# Altium footprint library TH Resistor.PcbLib: 12 footprints
Each footprint in its own frame and in the unit in brackets; x right, y up, seen from the top. Pads: shape width x height; smd on the part's side, far side on the other; paste and mask are expansions set on the pad; w line width, h text height; cw(c..) or ccw(c..) is an arc to the next point about the centre after c.
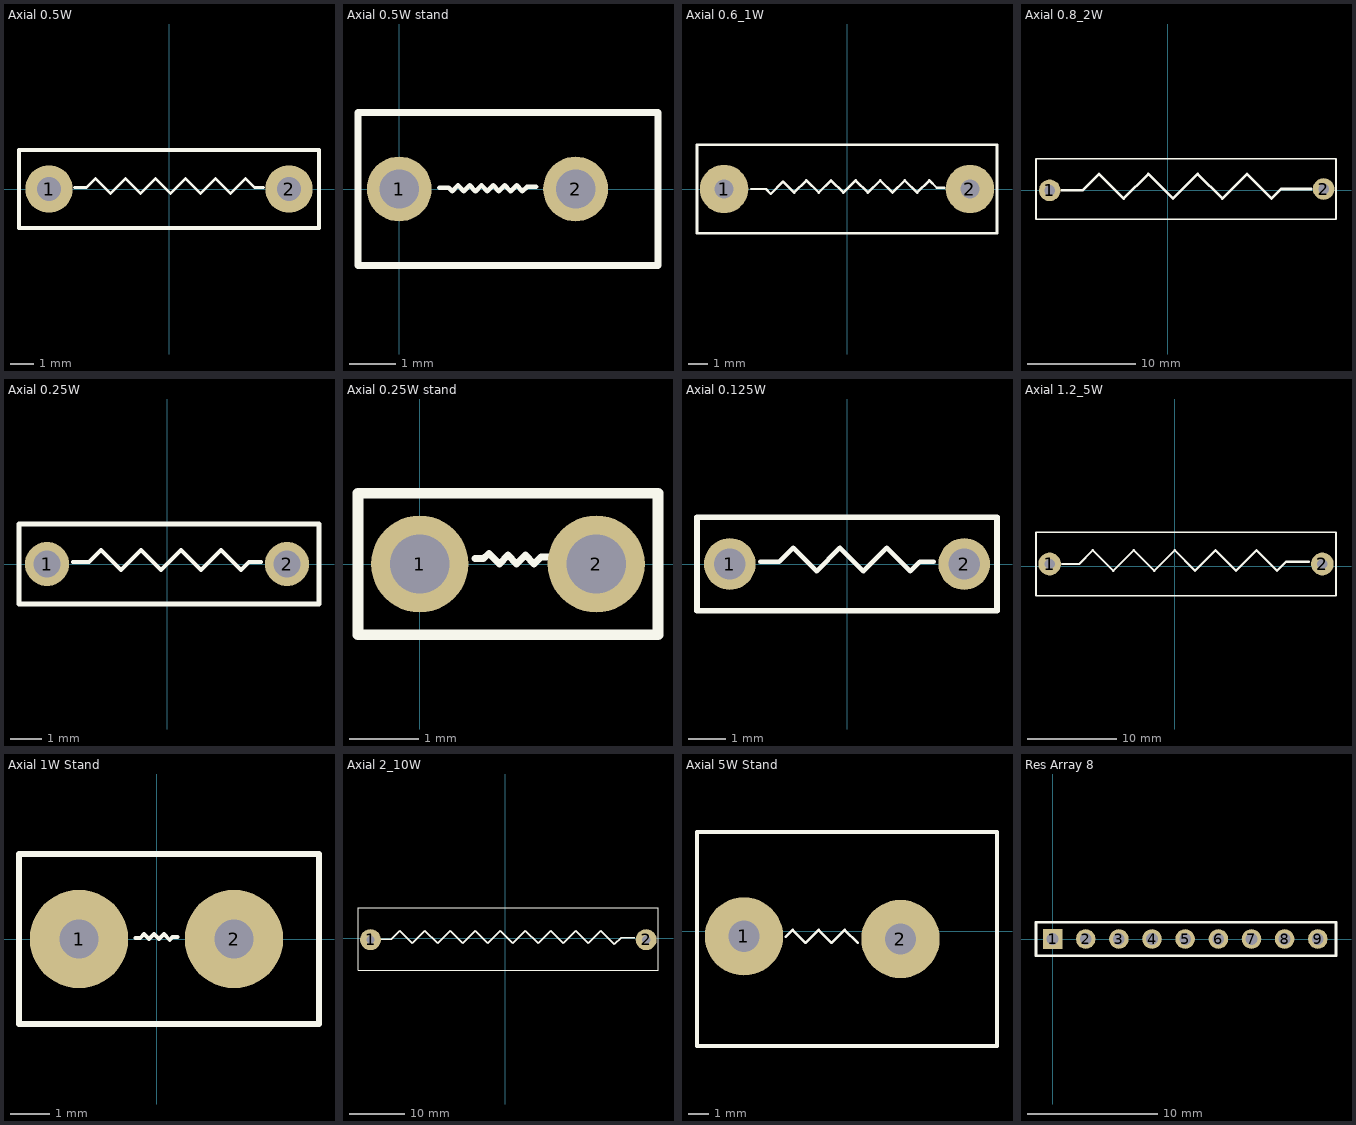
[diagram p0: the footprints below, top view; thin cyan lines are the x and y axes]

## Axial 0.5W [mm]
pads (2):
  round 2 hole 1: 1(-5.08,0) 2(5.08,0)
Top Overlay:
  lines w0.127: -4,0.064 -3.492,0.064 -3.111,0.445 -2.476,-0.191 -1.841,0.445 -1.206,-0.191 -0.572,0.445 0.064,-0.191 0.699,0.445 1.333,-0.191 1.968,0.445 2.603,-0.191 3.238,0.445 3.619,0.064 4,0.064
  lines w0.152: -6.35,-1.651 6.35,-1.651 6.35,1.651 -6.35,1.651 -6.35,-1.651
3D body "User Library-Res40 0_5W SilCoat.STEP": height 3.32, standoff -2, extent -5.461,-1.65 5.399,1.65

## Axial 0.5W stand [mm]
height 3
pads (2):
  round 1.4 hole 0.85: 1(0,0) 2(3.81,0)
Top Overlay:
  lines w0.1: 0.87,0.027 1.07,0.027 1.145,-0.048 1.27,0.077 ; 1.653,-0.048 1.778,0.077 ; 2.411,-0.048 2.536,0.077 ; 2.953,0.052 2.761,0.052 2.661,-0.048 ; 1.27,0.077 1.27,0.077 ; 1.27,0.077 1.395,-0.048 ; 1.395,-0.048 1.395,-0.048 ; 1.395,-0.048 1.52,0.077 1.645,-0.048 ; 1.645,-0.048 1.645,-0.048 ; 1.778,0.077 1.903,-0.048 ; 1.778,0.077 1.778,0.077 ; 1.903,-0.048 2.028,0.077 ; 1.903,-0.048 1.903,-0.048 ; 2.028,0.077 2.153,-0.048 ; 2.028,0.077 2.028,0.077 ; 2.153,-0.048 2.278,0.077 2.403,-0.048 ; 2.153,-0.048 2.153,-0.048 ; 2.403,-0.048 2.403,-0.048 ; 2.536,0.077 2.536,0.077 ; 2.536,0.077 2.661,-0.048 ; 2.661,-0.048 2.661,-0.048
  lines w0.152: -0.889,-1.651 -0.889,1.651 5.588,1.651 5.588,-1.651 -0.889,-1.651
3D body "User Library-RES 0,5W -V  L=9 D=3,2 d=0,6 Pin2Pin=3,81.STEP": height 11.89, standoff -3.76, extent -0.254,-1.6 5.454,1.6
3D body: height 25.5, standoff -8.95, extent 1.27,0 1.27,0
3D body: height 1.05, standoff -1.05, extent 3.81,0 3.81,0

## Axial 0.6_1W [mm]
pads (2):
  round 2.5 hole 1: 1(-6.35,0) 2(6.35,0)
Top Overlay:
  lines w0.127: -4.953,0 -4.445,0 -4.191,0 -3.937,-0.254 -3.302,0.381 -2.73,-0.191 -2.095,0.445 -1.46,-0.191 -0.826,0.445 -0.191,-0.191 0.445,0.445 1.079,-0.191 1.714,0.445 2.349,-0.191 2.984,0.445 3.619,-0.191 4.255,0.445 4.635,0.064 5.016,0.064
  lines w0.152: -7.747,-2.286 -7.493,-2.286 7.747,-2.286 7.747,2.286 -7.747,2.286 -7.747,-2.286
3D body "User Library-Res50 1W SilCoat.STEP": height 4.52, standoff -2, extent -6.731,-2.25 6.719,2.25

## Axial 0.8_2W [mm]
pads (2):
  round 2 hole 1: 1(-10.922,0) 2(14.478,0.127)
Top Overlay:
  lines w0.152: -12.192,-2.667 -12.192,2.921 15.621,2.921 15.621,-2.667 -12.192,-2.667
  lines w0.254: -9.779,0 -7.874,0 -6.35,1.524 -4.064,-0.762 -1.778,1.524 0.508,-0.762 2.794,1.524 5.08,-0.762 7.366,1.524 9.652,-0.762 10.541,0.127 13.335,0.127
3D body "User Library-Res100 2W SilCoat.STEP": height 5.27, standoff -2, extent -11.327,-2.623 14.883,2.877

## Axial 0.25W [mm]
height 3
pads (2):
  round 1.4 hole 0.85: 1(-3.81,0) 2(3.81,0)
Top Overlay:
  lines w0.127: -2.984,0.064 -2.476,0.064 -2.095,0.445 -1.46,-0.191 -0.826,0.445 -0.191,-0.191 0.445,0.445 1.079,-0.191 1.714,0.445 2.349,-0.191 2.603,0.064 2.984,0.064
  lines w0.152: -4.699,-1.27 4.826,-1.27 4.826,1.27 4.572,1.27 -4.699,1.27 -4.699,-1.27
3D body: height 1.05, standoff -1.05, extent 0,0 0,0
3D body "User Library-Res30 0_25W SilCoat.STEP": height 2.41, standoff -2, extent -4.11,-1.2 4.11,1.2

## Axial 0.25W stand [mm]
height 3
pads (2):
  round 1.4 hole 0.85: 1(0,0) 2(2.54,0)
Top Overlay:
  lines w0.1: 0.795,0.077 0.92,0.077 0.995,0.152 ; 0.995,0.152 0.995,0.152 ; 0.995,0.152 1.145,0.002 ; 1.145,0.002 1.145,0.002 ; 1.145,0.002 1.27,0.127 ; 1.27,0.127 1.27,0.127 ; 1.27,0.127 1.395,0.002 ; 1.395,0.002 1.395,0.002 ; 1.395,0.002 1.52,0.127 1.645,0.002 ; 1.645,0.002 1.645,0.002 ; 1.645,0.002 1.745,0.102 1.87,0.102 ; 1.87,0.102 1.87,0.102
  lines w0.152: -0.889,-1.016 -0.889,1.016 3.429,1.016 3.429,-1.016 -0.889,-1.016
3D body: height 1.05, standoff -1.05, extent 3.81,0 3.81,0
3D body "SW3dPS-Res_Stand.STEP": height 7.04, standoff -1.71, extent -0.922,-0.92 2.79,0.921

## Axial 0.125W [mm]
height 3
pads (2):
  round 1.4 hole 0.85: 1(-3.175,0) 2(3.175,0)
Top Overlay:
  lines w0.127: -2.349,0.064 -1.841,0.064 -1.46,0.445 -0.826,-0.191 -0.191,0.445 0.445,-0.191 1.079,0.445 1.714,-0.191 1.968,0.064 2.349,0.064
  lines w0.152: -4.064,-1.27 -4.064,1.27 3.937,1.27 4.064,1.27 4.064,-1.27 -4.064,-1.27
3D body: height 1.05, standoff -1.05, extent -0.635,0 -0.635,0
3D body "User Library-Resistor-Eighth_watt_250spacing.STEP": height 2.2, standoff -0.85, extent -3.55,-1.05 3.55,1.05

## Axial 1.2_5W [mil]
height 118.11
pads (2):
  round 100 hole 45: 1(-550,10) 2(650,10)
Top Overlay:
  lines w8: -610,-130 -610,150 710,150 710,-130 -610,-130
  lines w10: -495,10 -420,10 -360,70 -270,-20 -180,70 -90,-20 0,70 90,-20 180,70 270,-20 360,70 450,-20 490,20 590,20
3D body "SW3dPS-5w wid.STEP": height 328.74, standoff -112.2, extent -565.75,-125 665.75,150.59

## Axial 1W Stand [mm]
pads (2):
  round 2.5 hole 1: 1(-1.968,0) 2(1.968,0)
Top Overlay:
  lines w0.1: 0.536,0.052 0.412,0.052 0.336,-0.023 ; -0.539,0.027 -0.538,0.027 ; -0.538,0.027 -0.413,0.027 -0.314,0.127 ; -0.314,0.127 -0.313,0.127 ; -0.313,0.127 -0.189,0.002 -0.064,0.127 ; -0.064,0.127 -0.064,0.127 ; -0.064,0.127 0.061,0.002 ; 0.061,0.002 0.062,0.002 ; 0.062,0.002 0.186,0.127 ; 0.186,0.127 0.187,0.127 ; 0.187,0.127 0.336,-0.023 ; 0.336,-0.023 0.336,-0.023
  lines w0.152: -3.492,-2.159 4.127,-2.159 4.127,2.159 -3.492,2.159 -3.492,-2.159
3D body "User Library-Resistor KNP-100.STEP": height 15.53, standoff -3.87, extent -2.431,-2.01 3.979,2.01

## Axial 2_10W [mil]
pads (2):
  round 150 hole 60: 1(-965,-10) 2(1010,-10)
Top Overlay:
  lines w8: -1055,-230 1095,-230 1095,220 -1055,220 -1055,-230
  lines w10: -890,-5 -815,-5 -755,55 -665,-35 -575,55 -485,-35 -395,55 -305,-35 -215,55 -125,-35 -35,55 55,-35 145,55 235,-35 325,55 415,-35 505,55 595,-35 685,55 782.5,-42.5 830,5 930,5
3D body "User Library-Resistor_PTH_RS010_Vishay_10W.STEP": height 375.2, standoff -102.36, extent -982.39,-196.29 1025.48,178.9

## Axial 5W Stand [mil]
pads (2):
  round 150 hole 60: 1(-965,-10) 2(-665,-15)
Top Overlay:
  lines w5: -884.67,-10.33 -871.84,2.5 -846.84,-22.5 -821.84,2.5 -796.84,-22.5 -771.84,2.5 -746.84,-22.5
  lines w8: -1055,-220 -480,-220 -480,190 -1055,190 -1055,-220
3D body "User Library-Cement Fixed Resistors 5W PCB Vertical.STEP": height 1014.76, standoff -124.8, extent -976.93,-211.85 -485,181.85

## Res Array 8 [mm]
pads (9):
  rect 1.5x1.5 hole 0.9: 1(0,0)
  round 1.5 hole 0.9: 2(2.54,0) 3(5.08,0) 4(7.62,0) 5(10.16,0) 6(12.7,0) 7(15.24,0) 8(17.78,0) 9(20.32,0)
Top Overlay:
  lines w0.2: -1.27,-1.27 21.717,-1.27 21.717,1.27 0.635,1.27 -1.27,1.27 -1.27,-1.27
3D body "User Library-Resistor Pack 8.STEP": height 6.43, standoff -2, extent -1.245,-1.27 21.565,1.23